# Altium schematic symbol library Schlib1.SchLib: 17 symbols
Pins are listed as number, name and electrical type; pins without a type are passive.

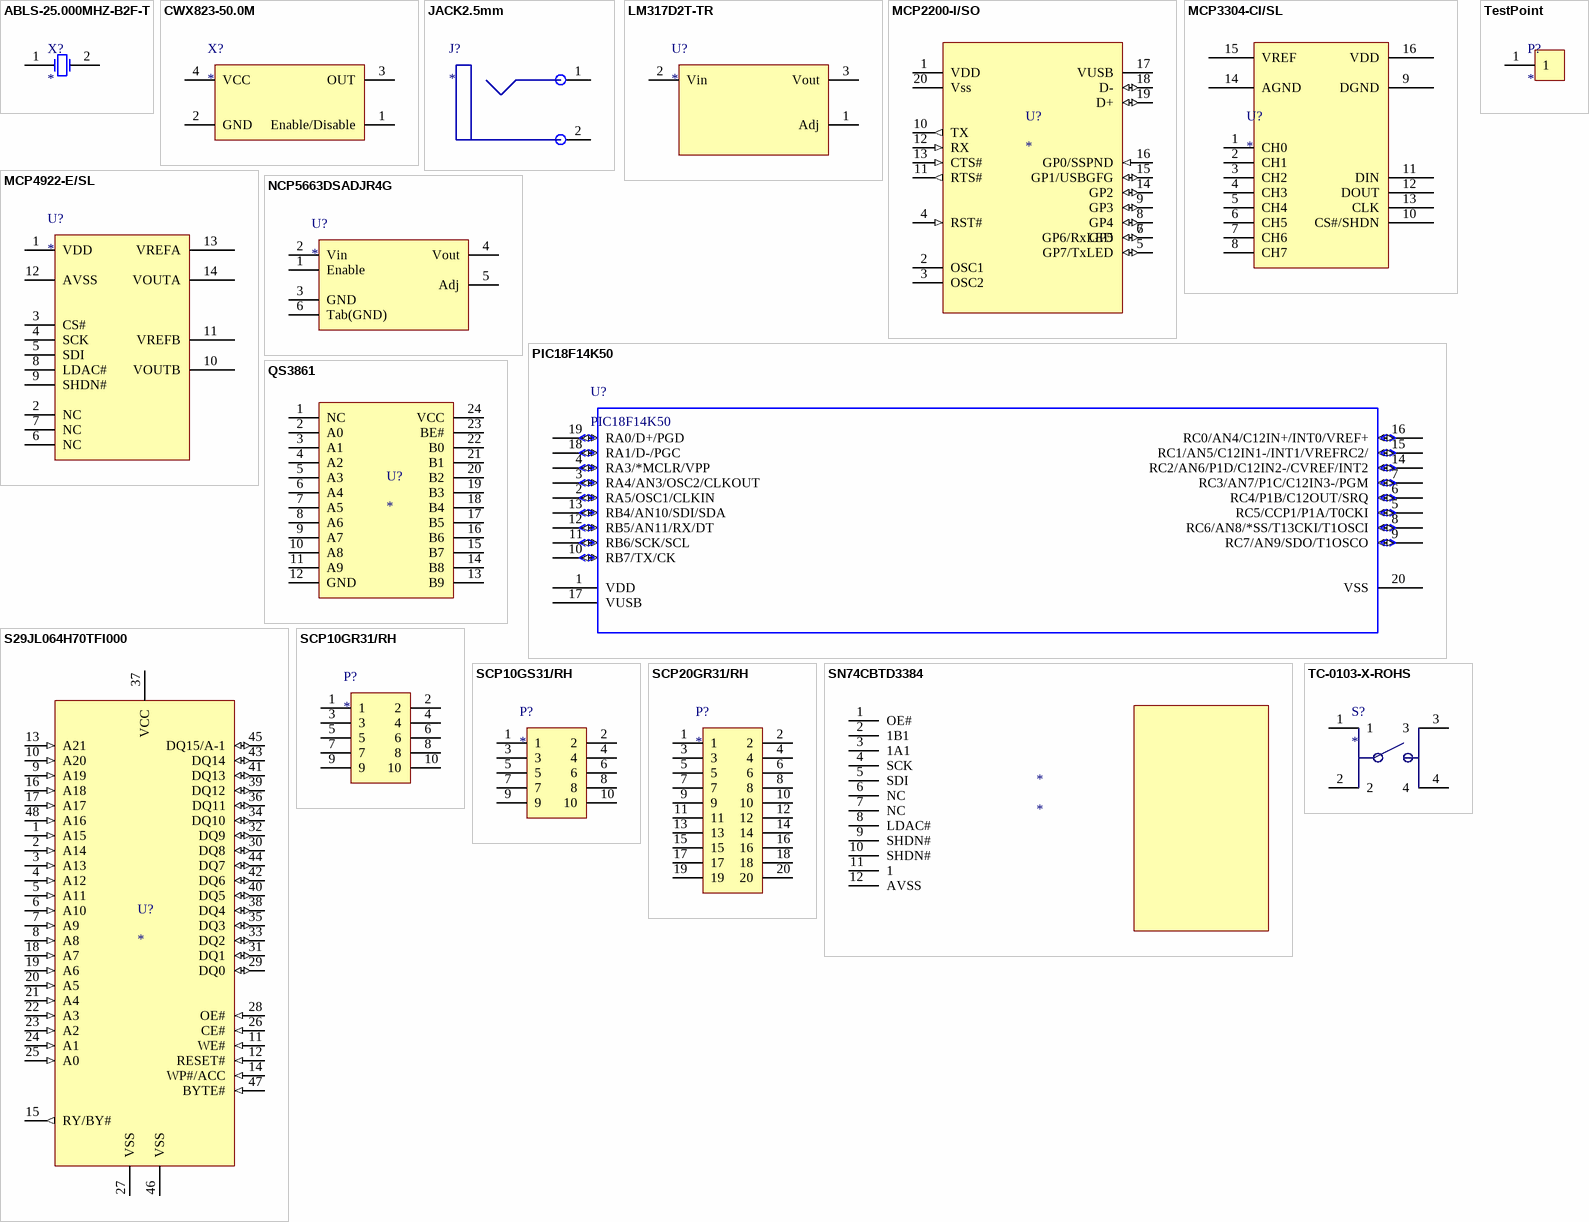
[diagram p0: symbols ABLS-25.000MHZ-B2F-T to TestPoint]

## ABLS-25.000MHZ-B2F-T
designator X?
footprint ABLS-25.000MHZ-B2F-T
pins: 1 OSC1, 2 OSC2

## CWX823-50.0M
designator X?
footprint CWX823-50.0M
pins: 1 Enable/Disable, 2 GND, 3 OUT, 4 VCC

## JACK2.5mm
designator J?
footprint JACK
pins: 1, 2

## LM317D2T-TR
designator U?
footprint LM317 (D2-PAK/TO-263-AB; 3 Leads (1 Cropped); Body 14.7 (inc. leads) x 10.2 mm (LxW max))
pins: 1 Adj, 2 Vin, 3 Vout

## MCP2200-I/SO
designator U?
footprint SOIC300-20_M (20-Pin Plastic Wide Body Small Outline Integrated Circuit 1.27 mm Pitch, IPC Low Density)
pins: 1 VDD (power), 2 OSC1 (power), 3 OSC2 (power), 4 RST# (in), 5 GP7/TxLED (io), 6 GP6/RxLED (io), 7 GP5 (io), 8 GP4 (io), 9 GP3 (io), 10 TX (out), 11 RTS# (out), 12 RX (in), 13 CTS# (in), 14 GP2 (io), 15 GP1/USBGFG (io), 16 GP0/SSPND (in), 17 VUSB (power), 18 D- (io), 19 D+ (io), 20 Vss (power)

## MCP3304-CI/SL
designator U?
footprint MCP3304-CI/SL
pins: 1 CH0, 2 CH1, 3 CH2, 4 CH3, 5 CH4, 6 CH5, 7 CH6, 8 CH7, 9 DGND, 10 CS#/SHDN, 11 DIN, 12 DOUT, 13 CLK, 14 AGND, 15 VREF, 16 VDD

## MCP4922-E/SL
designator U?
footprint MCP4922-E/SL
pins: 1 VDD, 2 NC, 3 CS#, 4 SCK, 5 SDI, 6 NC, 7 NC, 8 LDAC#, 9 SHDN#, 10 VOUTB, 11 VREFB, 12 AVSS, 13 VREFA, 14 VOUTA

## NCP5663DSADJR4G
designator U?
footprint D2PAK(936AA)
pins: 1 Enable, 2 Vin, 3 GND, 4 Vout, 5 Adj, 6 Tab(GND)

## PIC18F14K50
designator U?
footprint PIC18F14K50-SO
pins: 1 VDD (power), 2 RA5/OSC1/CLKIN (io), 3 RA4/AN3/OSC2/CLKOUT (io), 4 RA3/*MCLR/VPP (io), 5 RC5/CCP1/P1A/T0CKI (io), 6 RC4/P1B/C12OUT/SRQ (io), 7 RC3/AN7/P1C/C12IN3-/PGM (io), 8 RC6/AN8/*SS/T13CKI/T1OSCI (io), 9 RC7/AN9/SDO/T1OSCO (io), 10 RB7/TX/CK (io), 11 RB6/SCK/SCL (io), 12 RB5/AN11/RX/DT (io), 13 RB4/AN10/SDI/SDA (io), 14 RC2/AN6/P1D/C12IN2-/CVREF/INT2 (io), 15 RC1/AN5/C12IN1-/INT1/VREFRC2/ (io), 16 RC0/AN4/C12IN+/INT0/VREF+ (io), 17 VUSB (power), 18 RA1/D-/PGC (io), 19 RA0/D+/PGD (io), 20 VSS (power)

## QS3861
designator U?
footprint TSSOP24(QS3681) (Shrink Small Outline; 24 Leads; Body Width 4.4 mm; Pitch 0.65 mm)
pins: 1 NC, 2 A0, 3 A1, 4 A2, 5 A3, 6 A4, 7 A5, 8 A6, 9 A7, 10 A8, 11 A9, 12 GND, 13 B9, 14 B8, 15 B7, 16 B6, 17 B5, 18 B4, 19 B3, 20 B2, 21 B1, 22 B0, 23 BE#, 24 VCC

## S29JL064H70TFI000
designator U?
Flash
pins: 1 A15 (in), 2 A14 (in), 3 A13 (in), 4 A12 (in), 5 A11 (in), 6 A10 (in), 7 A9 (in), 8 A8 (in), 9 A19 (in), 10 A20 (in), 11 WE# (in), 12 RESET# (in), 13 A21 (in), 14 WP#/ACC (in), 15 RY/BY# (out), 16 A18 (in), 17 A17 (in), 18 A7 (in), 19 A6 (in), 20 A5 (in), 21 A4 (in), 22 A3 (in), 23 A2 (in), 24 A1 (in), 25 A0 (in), 26 CE# (in), 27 VSS (power), 28 OE# (in), 29 DQ0 (io), 30 DQ8 (io), 31 DQ1 (io), 32 DQ9 (io), 33 DQ2 (io), 34 DQ10 (io), 35 DQ3 (io), 36 DQ11 (io), 37 VCC (power), 38 DQ4 (io), 39 DQ12 (io), 40 DQ5 (io), 41 DQ13 (io), 42 DQ6 (io), 43 DQ14 (io), 44 DQ7 (io), 45 DQ15/A-1 (io), 46 VSS (power), 47 BYTE# (in), 48 A16 (in)

## SCP10GR31/RH
designator P?
footprint SCP10GR31/RH
pins: 1, 2, 3, 4, 5, 6, 7, 8, 9, 10

## SCP10GS31/RH
designator P?
footprint SCP10GS31/RH
pins: 1, 2, 3, 4, 5, 6, 7, 8, 9, 10

## SCP20GR31/RH
designator P?
footprint SCP20GR31/RH
pins: 1, 2, 3, 4, 5, 6, 7, 8, 9, 10, 11, 12, 13, 14, 15, 16, 17, 18, 19, 20

## SN74CBTD3384
designator *
pins: 1 OE#, 2 1B1, 3 1A1, 4 SCK, 5 SDI, 6 NC, 7 NC, 8 LDAC#, 9 SHDN#, 10 SHDN#, 11 1, 12 AVSS

## TC-0103-X-ROHS
designator S?
footprint TACK_SW 6x6mm
pins: 1, 2, 3, 4

## TestPoint
designator P?
footprint HDR1X1
pins: 1